# Altium footprint library PicoBlade 6POS RA SMD.PcbLib: 1 footprints
Each footprint in its own frame and in the unit in brackets; x right, y up, seen from the top. Pads: shape width x height; smd on the part's side, far side on the other; paste and mask are expansions set on the pad; w line width, h text height; cw(c..) or ccw(c..) is an arc to the next point about the centre after c.
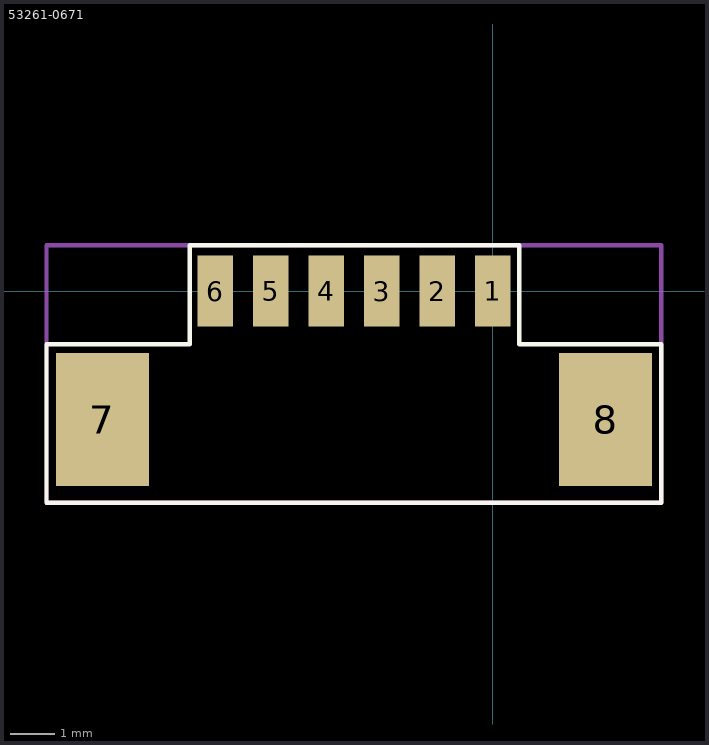
[diagram p0: the footprint, top view; thin cyan lines are the x and y axes]

## 53261-0671 [mm]
pads (8):
  rect 0.8x1.6 smd: 1(0,0) 2(-1.25,0) 3(-2.5,0) 4(-3.75,0) 5(-5,0) 6(-6.25,0)
  rect 2.1x3 smd: 7(-8.8,-2.9) 8(2.55,-2.9)
L26-Silk Screen Top (Multiple PADS layers...):
  lines w0.1: -10.06,-4.775 -10.06,-1.2 -6.829,-1.2 -6.829,1.034 0.603,1.034 0.603,-1.199 3.806,-1.199 3.806,-4.775 -10.06,-4.775
L15 (Multiple PADS layers...):
  lines w0.1: -10.06,-4.775 -10.06,1.034 3.806,1.034 3.806,-4.775 -10.06,-4.775